# EAGLE library part CPL-ETH-PHY-LAN8720A (library TinWhiskers)
Physical Ethernet Chip; Package: QFN-24; Datasheet: http://ww1.microchip.com/downloads/en/DeviceDoc/8720a.pdf
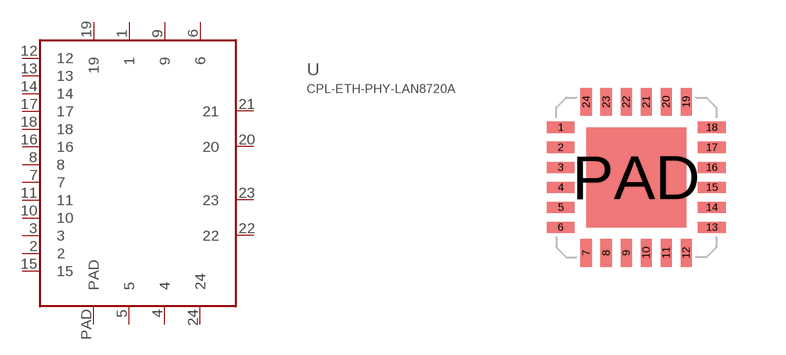
[diagram p7: symbol with the pads of 24-QFN; footprint 24-QFN]

Designator prefix U

## CPL-ETH-PHY-LAN8720A  [24-QFN]
1  1  pas
2  2  pas
3  3  pas
4  4  pas
5  5  pas
6  6  pas
7  7  pas
8  8  pas
9  9  pas
10  10  pas
11  11  pas
12  12  pas
13  13  pas
14  14  pas
15  15  pas
16  16  pas
17  17  pas
18  18  pas
19  19  pas
20  20  pas
21  21  pas
22  22  pas
23  23  pas
24  24  pas
PAD  PAD  pas

## Footprint 24-QFN (pad centres in mm)
Package: QFN-24
smd 0.7 x 0.28: 1 -1.89,1.25; 2 -1.89,0.75; 3 -1.89,0.25; 4 -1.89,-0.25; 5 -1.89,-0.75; 6 -1.89,-1.25; 13 1.89,-1.25; 14 1.89,-0.75; 15 1.89,-0.25; 16 1.89,0.25; 17 1.89,0.75; 18 1.89,1.25
smd 0.28 x 0.7: 7 -1.25,-1.89; 8 -0.75,-1.89; 9 -0.25,-1.89; 10 0.25,-1.89; 11 0.75,-1.89; 12 1.25,-1.89; 19 1.25,1.89; 20 0.75,1.89; 21 0.25,1.89; 22 -0.25,1.89; 23 -0.75,1.89; 24 -1.25,1.89
smd 2.5 x 2.5: PAD 0,0